# EAGLE library part LCD_NHD (library mbonnin)
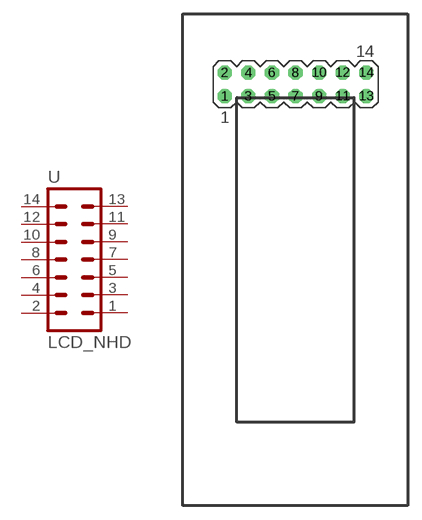
[diagram p3: symbol with the pads of HEADER_7_2; footprint HEADER_7_2]

Designator prefix -

## LCD_NHD  [HEADER_7_2]
1  1  pas
2  2  pas
3  3  pas
4  4  pas
5  5  pas
6  6  pas
7  7  pas
8  8  pas
9  9  pas
10  10  pas
11  11  pas
12  12  pas
13  13  pas
14  14  pas

## Footprint HEADER_7_2 (pad centres in mm)
drill 1.016 octagon: 1 -7.625,-1.28; 2 -7.625,1.26; 3 -5.085,-1.28; 4 -5.085,1.26; 5 -2.545,-1.28; 6 -2.545,1.26; 7 -0.005,-1.28; 8 -0.005,1.26; 9 2.535,-1.28; 10 2.535,1.26; 11 5.075,-1.28; 12 5.075,1.26; 13 7.615,-1.28; 14 7.615,1.26